# EAGLE library part LAPAVRISP (library PAS)
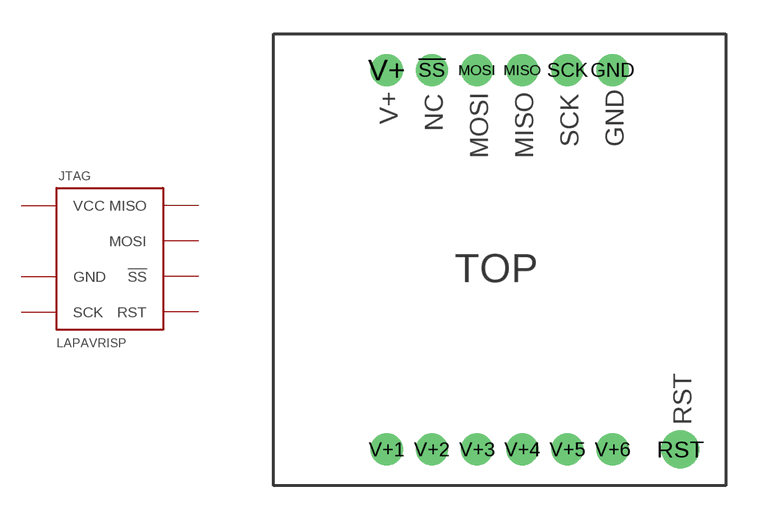
[diagram p8: symbol with the pads of LPAVRISP; footprint LPAVRISP]

Designator prefix JTAG

## LAPAVRISP  [LPAVRISP]
!SS  !SS
GND  GND
MISO  MISO
MOSI  MOSI
RST  RST
SCK  SCK
V+  VCC

## Footprint LPAVRISP (pad centres in mm)
Programming connector pin pad with pogo reset pin hole.
drill 0.8 pad 1.422 round: !SS -3,8.4; GND 5,8.4; MISO 1,8.4; MOSI -1,8.4; SCK 3,8.4; V+ -5,8.4; V+1 -5,-8.4; V+2 -3,-8.4; V+3 -1,-8.4; V+4 1,-8.4; V+5 3,-8.4; V+6 5,-8.4
drill 0.8 pad 1.676 round: RST 8,-8.4